# Altium schematic symbol library AT91SAM9RL74.Schlib: 1 symbol
Pins are listed as number, name and electrical type; pins without a type are passive.

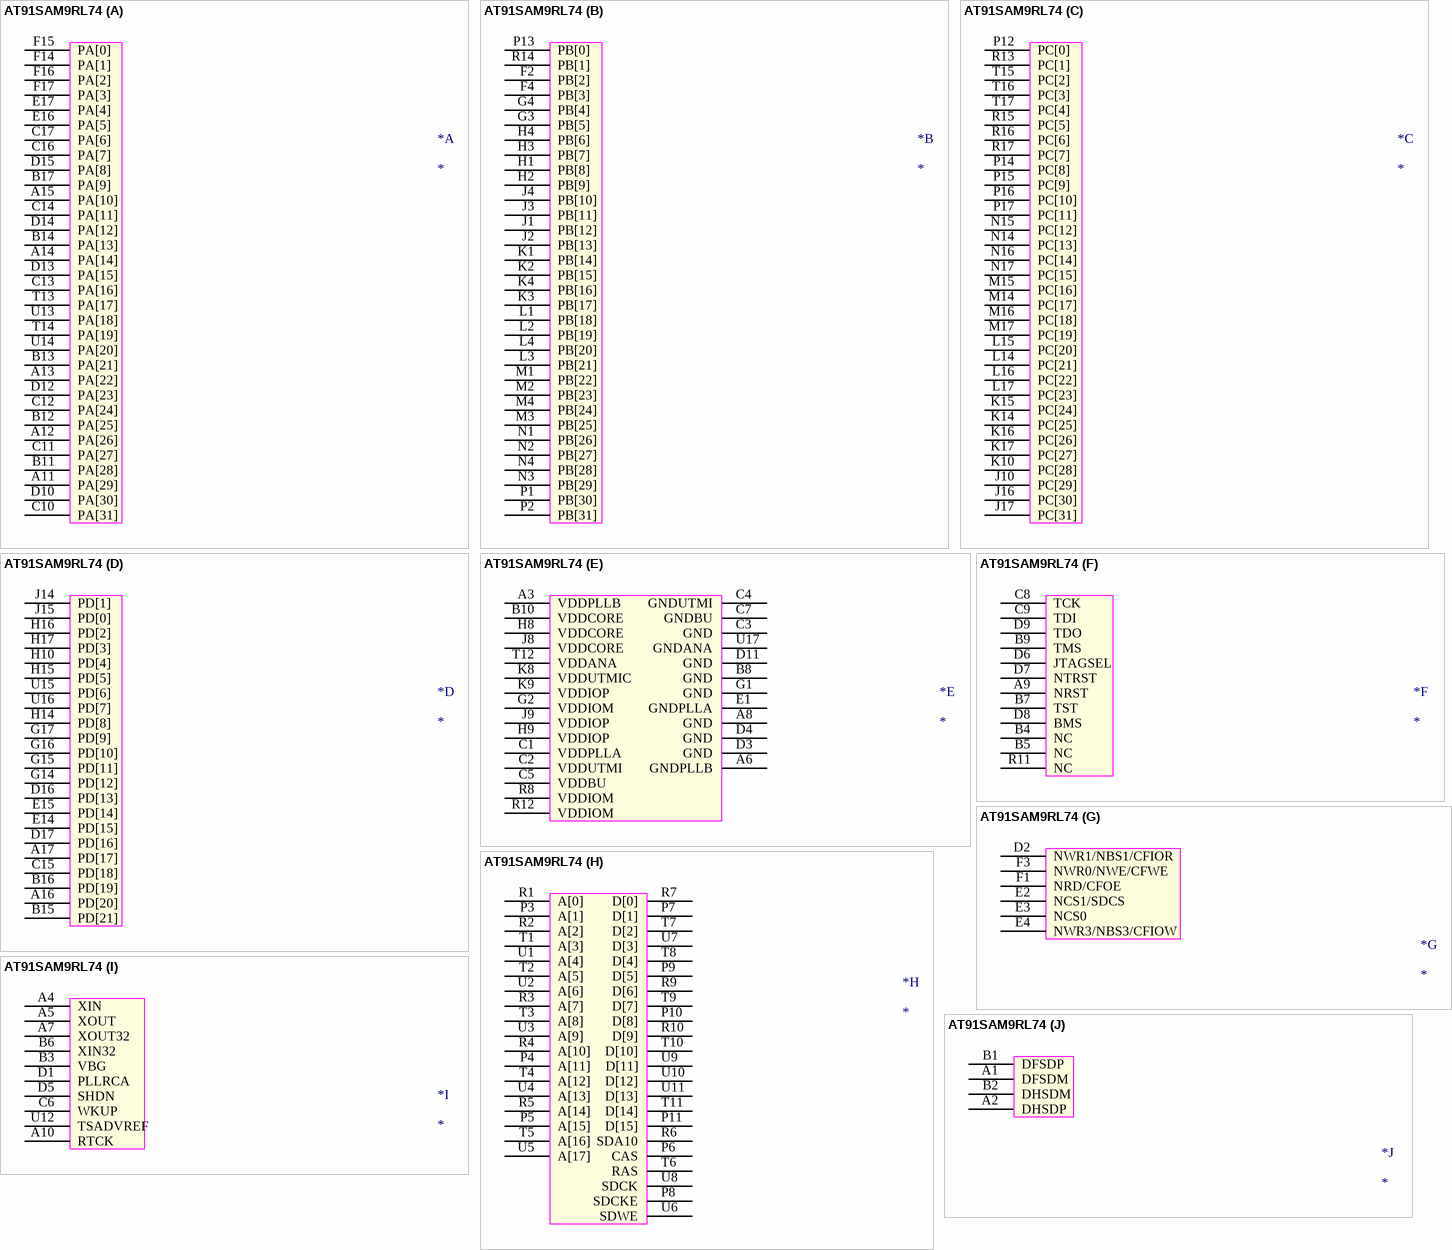
[diagram p0: symbol AT91SAM9RL74]

## AT91SAM9RL74
designator *
part A pins: A11 PA[29], A12 PA[26], A13 PA[22], A14 PA[14], A15 PA[10], B11 PA[28], B12 PA[25], B13 PA[21], B14 PA[13], B17 PA[9], C10 PA[31], C11 PA[27], C12 PA[24], C13 PA[16], C14 PA[11], C16 PA[7], C17 PA[6], D10 PA[30], D12 PA[23], D13 PA[15], D14 PA[12], D15 PA[8], E16 PA[5], E17 PA[4], F14 PA[1], F15 PA[0], F16 PA[2], F17 PA[3], T13 PA[17], T14 PA[19], U13 PA[18], U14 PA[20]
part B pins: F2 PB[2], F4 PB[3], G3 PB[5], G4 PB[4], H1 PB[8], H2 PB[9], H3 PB[7], H4 PB[6], J1 PB[12], J2 PB[13], J3 PB[11], J4 PB[10], K1 PB[14], K2 PB[15], K3 PB[17], K4 PB[16], L1 PB[18], L2 PB[19], L3 PB[21], L4 PB[20], M1 PB[22], M2 PB[23], M3 PB[25], M4 PB[24], N1 PB[26], N2 PB[27], N3 PB[29], N4 PB[28], P1 PB[30], P2 PB[31], P13 PB[0], R14 PB[1]
part C pins: J10 PC[29], J16 PC[30], J17 PC[31], K10 PC[28], K14 PC[25], K15 PC[24], K16 PC[26], K17 PC[27], L14 PC[21], L15 PC[20], L16 PC[22], L17 PC[23], M14 PC[17], M15 PC[16], M16 PC[18], M17 PC[19], N14 PC[13], N15 PC[12], N16 PC[14], N17 PC[15], P12 PC[0], P14 PC[8], P15 PC[9], P16 PC[10], P17 PC[11], R13 PC[1], R15 PC[5], R16 PC[6], R17 PC[7], T15 PC[2], T16 PC[3], T17 PC[4]
part D pins: A16 PD[20], A17 PD[17], B15 PD[21], B16 PD[19], C15 PD[18], D16 PD[13], D17 PD[16], E14 PD[15], E15 PD[14], G14 PD[12], G15 PD[11], G16 PD[10], G17 PD[9], H10 PD[4], H14 PD[8], H15 PD[5], H16 PD[2], H17 PD[3], J14 PD[1], J15 PD[0], U15 PD[6], U16 PD[7]
part E pins: A3 VDDPLLB, A6 GNDPLLB, A8 GND, B8 GND, B10 VDDCORE, C1 VDDPLLA, C2 VDDUTMI, C3 GND, C4 GNDUTMI, C5 VDDBU, C7 GNDBU, D3 GND, D4 GND, D11 GND, E1 GNDPLLA, G1 GND, G2 VDDIOM, H8 VDDCORE, H9 VDDIOP, J8 VDDCORE, J9 VDDIOP, K8 VDDUTMIC, K9 VDDIOP, R8 VDDIOM, R12 VDDIOM, T12 VDDANA, U17 GNDANA
part F pins: A9 NRST, B4 NC, B5 NC, B7 TST, B9 TMS, C8 TCK, C9 TDI, D6 JTAGSEL, D7 NTRST, D8 BMS, D9 TDO, R11 NC
part G pins: D2 NWR1/NBS1/CFIOR, E2 NCS1/SDCS, E3 NCS0, E4 NWR3/NBS3/CFIOW, F1 NRD/CFOE, F3 NWR0/NWE/CFWE
part H pins: P3 A[1], P4 A[11], P5 A[15], P6 CAS, P7 D[1], P8 SDCKE, P9 D[5], P10 D[8], P11 D[15], R1 A[0], R2 A[2], R3 A[7], R4 A[10], R5 A[14], R6 SDA10, R7 D[0], R9 D[6], R10 D[9], T1 A[3], T2 A[5], T3 A[8], T4 A[12], T5 A[16], T6 RAS, T7 D[2], T8 D[4], T9 D[7], T10 D[10], T11 D[14], U1 A[4], U2 A[6], U3 A[9], U4 A[13], U5 A[17], U6 SDWE, U7 D[3], U8 SDCK, U9 D[11], U10 D[12], U11 D[13]
part I pins: A4 XIN, A5 XOUT, A7 XOUT32, A10 RTCK, B3 VBG, B6 XIN32, C6 WKUP, D1 PLLRCA, D5 SHDN, U12 TSADVREF
part J pins: A1 DFSDM, A2 DHSDP, B1 DFSDP, B2 DHSDM